# Altium footprint library PCB2.PcbLib: 15 footprints
Each footprint in its own frame and in the unit in brackets; x right, y up, seen from the top. Pads: shape width x height; smd on the part's side, far side on the other; paste and mask are expansions set on the pad; w line width, h text height; cw(c..) or ccw(c..) is an arc to the next point about the centre after c.
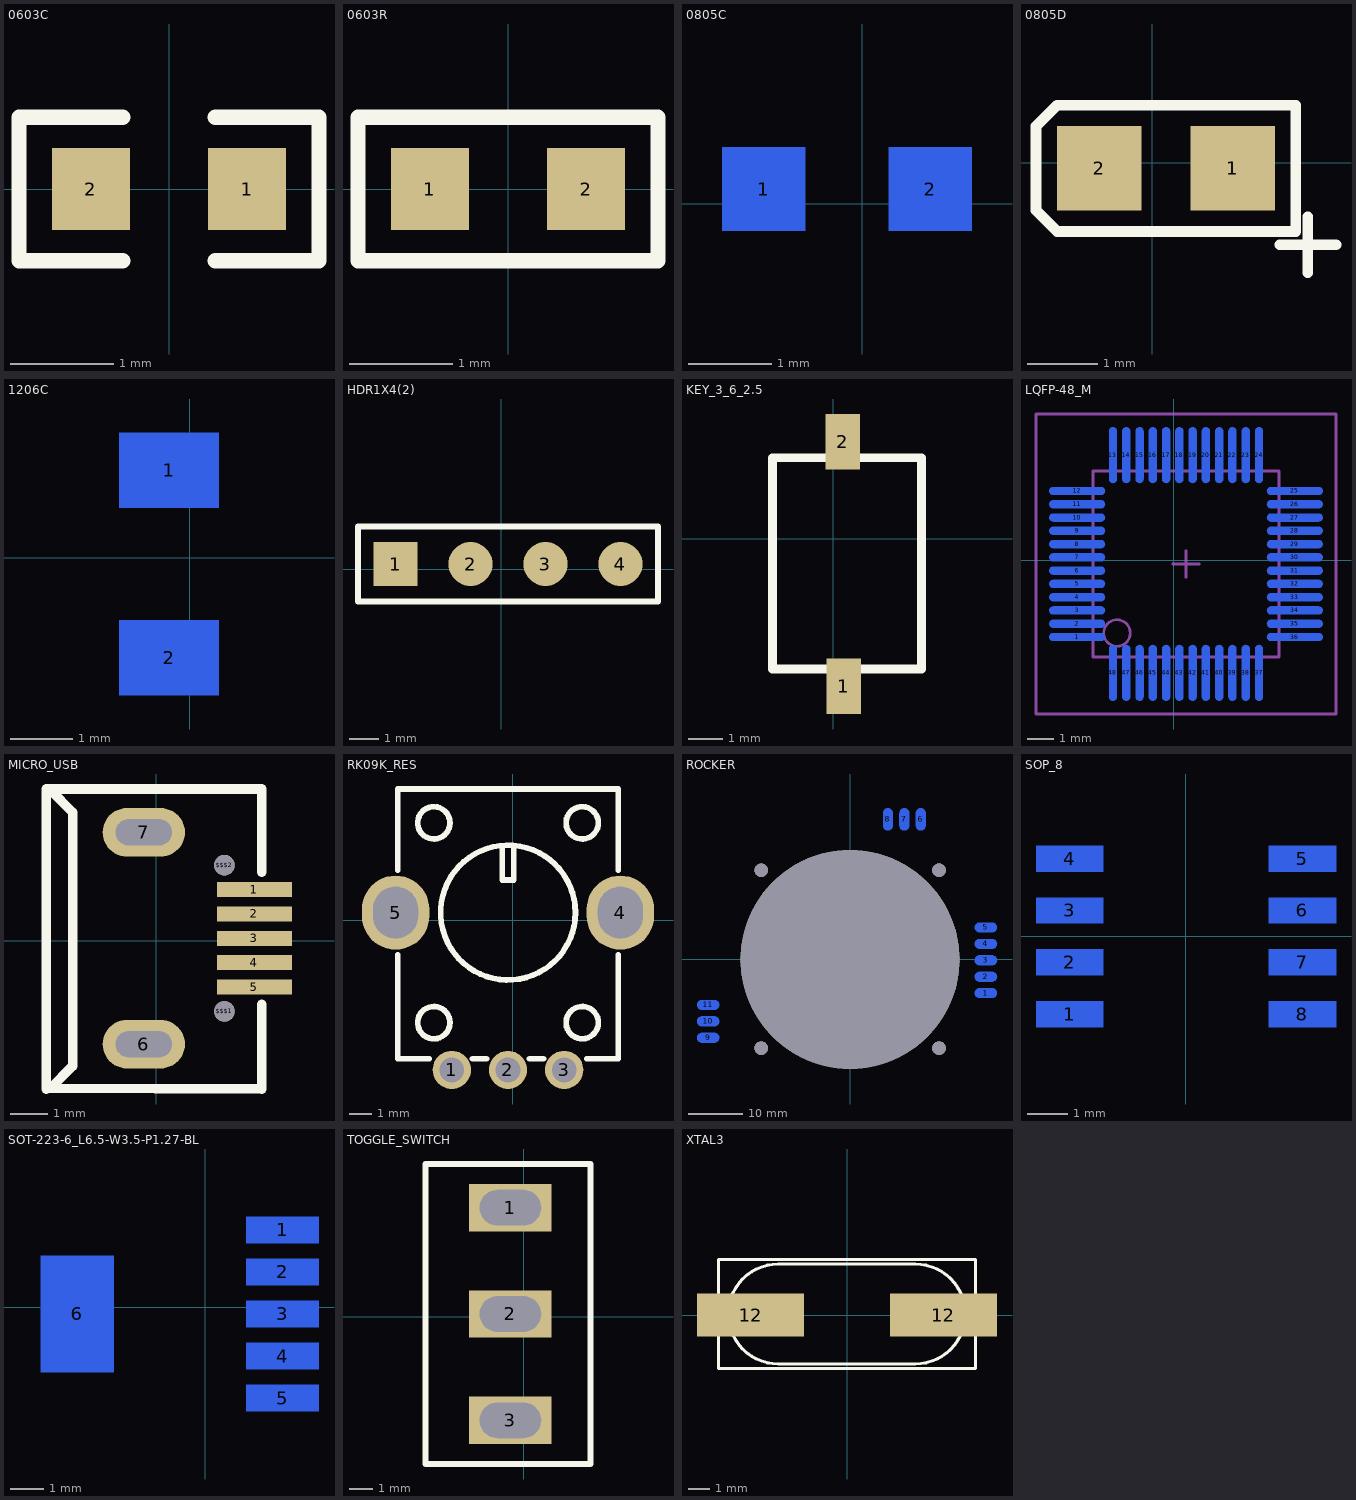
[diagram p0: the footprints below, top view; thin cyan lines are the x and y axes]

## 0603C [mil]
pads (2):
  rect 29.92x31.5 smd: 1(29.92,0) 2(-29.92,0)
Top Overlay:
  lines w5.91: -17.72,-27.56 -57.48,-27.56 -57.48,27.56 -17.72,27.56 ; 17.72,-27.56 57.48,-27.56 57.48,27.56 17.72,27.56

## 0603R [mil]
pads (2):
  rect 29.92x31.5 smd: 1(-29.92,0) 2(29.92,0)
Top Overlay:
  lines w5.91: -57.48,-27.56 57.48,-27.56 57.48,27.56 -57.48,27.56 -57.48,-27.56

## 0805C [mm]
pads (2):
  rect 1x1 smd far side: 1(-1.181,0.179) 2(0.819,0.179)
Bottom Overlay:
  lines w0.15: -0.731,-0.621 -1.981,-0.621 -1.981,0.979 -0.731,0.979 ; 0.369,-0.621 1.619,-0.621 1.619,0.979 0.369,0.979

## 0805D [mm]
pads (2):
  rect 1.2x1.2 smd: 1(1.148,-0.08) 2(-0.752,-0.08)
Top Overlay:
  lines w0.15: 1.818,-1.17 2.618,-1.17 ; 2.218,-1.57 2.218,-0.77 ; -1.652,-0.68 -1.652,0.52 -1.352,0.82 2.048,0.82 2.048,-0.98 -1.352,-0.98 -1.652,-0.68

## 1206C [mm]
pads (2):
  rect 1.6x1.2 smd far side: 1(-0.335,1.402) 2(-0.335,-1.598)
Bottom Overlay:
  lines w0.15: -1.435,-0.998 -1.435,-2.498 0.765,-2.498 0.765,-0.998 ; -1.435,0.802 -1.435,2.302 0.765,2.302 0.765,0.802

## HDR1X4(2) [mil]
pads (4):
  rect 59.06x59.06 smd: 1(-141,7)
  round 59.06 smd: 2(-41,7) 3(59,7) 4(159,7)
Top Overlay:
  lines w7.87: -191,-43 209,-43 209,57 -191,57 -191,-43

## KEY_3_6_2.5 [mm]
pads (2):
  rect 1x1.6 smd: 1(0.302,-4.272) 2(0.27,2.806)
Top Overlay:
  lines w0.254: -1.762,-3.772 -1.762,2.34 2.556,2.34 2.556,-3.772 -1.762,-3.772

## LQFP-48_M [mil]
pads (48):
  oval 82.68x11.81 smd far side: 1(-143.52,-113.96) 2(-143.52,-94.27) 3(-143.52,-74.59) 4(-143.52,-54.9) 5(-143.52,-35.22) 6(-143.52,-15.53) 7(-143.52,4.15) 8(-143.52,23.84) 9(-143.52,43.52) 10(-143.52,63.21) 11(-143.52,82.89) 12(-143.52,102.58) 25(179.32,102.58) 26(179.32,82.89) 27(179.32,63.21) 28(179.32,43.52) 29(179.32,23.84) 30(179.32,4.15) 31(179.32,-15.53) 32(179.32,-35.22) 33(179.32,-54.9) 34(179.32,-74.59) 35(179.32,-94.27) 36(179.32,-113.96)
  oval 11.81x82.68 smd far side: 13(-90.37,155.73) 14(-70.68,155.73) 15(-51,155.73) 16(-31.31,155.73) 17(-11.63,155.73) 18(8.06,155.73) 19(27.74,155.73) 20(47.43,155.73) 21(67.11,155.73) 22(86.8,155.73) 23(106.48,155.73) 24(126.17,155.73) 37(126.17,-167.11) 38(106.48,-167.11) 39(86.8,-167.11) 40(67.11,-167.11) 41(47.43,-167.11) 42(27.74,-167.11) 43(8.06,-167.11) 44(-11.63,-167.11) 45(-31.31,-167.11) 46(-51,-167.11) 47(-70.68,-167.11) 48(-90.37,-167.11)
Bottom Overlay:
  circle w9.84: c-143.52,-141.52 r4.92
  circle w23.62: c-47.06,-70.65 r11.81
  lines w7.87: -86.43,-110.02 -86.43,98.64 122.23,98.64 122.23,-110.02 -86.43,-110.02
Mechanical 19:
  circle w3.94: c-84.46,-108.05 r19.68
  lines w3.94: -119.9,-143.49 -119.9,132.11 155.7,132.11 155.7,-143.49 -119.9,-143.49
Mechanical 20:
  lines w3.94: -1.78,-5.69 37.59,-5.69 ; 17.9,-25.37 17.9,14 ; -204.54,-228.13 -204.54,216.75 240.34,216.75 240.34,-228.13 -204.54,-228.13

## MICRO_USB [mm]
pads (9):
  rect 2x0.4 smd: 1(2.618,1.362) 2(2.618,0.711) 3(2.618,0.061) 4(2.618,-0.588) 5(2.618,-1.237)
  oval 2.199x1.3 hole 0.7 slot 1.5 at 0 deg: 6(-0.332,-2.762) 7(-0.332,2.888)
  round 0.55 hole 0.55 unplated: $$$1(1.818,-1.886) $$$2(1.818,2.013)
Top Overlay:
  lines w0.254: -2.937,-3.956 -2.937,4.045 ; 2.814,-1.693 2.814,-3.956 -2.937,-3.936 -2.818,-3.936 -2.228,-3.347 -2.228,3.425 -2.818,4.014 -2.917,4.014 -2.917,4.045 2.814,4.045 2.814,1.82

## RK09K_RES [mm]
pads (5):
  round 1.7 hole 1.1: 1(-2.703,-6.649) 2(-0.203,-6.649) 3(2.297,-6.649)
  oval 3x3.3 hole 2 slot 2.3 at 90 deg: 4(4.797,0.351) 5(-5.203,0.351)
Top Overlay:
  circle w0.254: c3.099,-4.546 r0.718
  circle w0.254: c-3.505,-4.546 r0.718
  circle w0.254: c3.099,4.344 r0.718
  circle w0.254: c-3.505,4.344 r0.718
  circle w0.254: c-0.203,0.35 r3
  lines w0.254: -5.103,-1.528 -5.103,-6.149 -3.701,-6.149 ; -5.103,2.229 -5.103,5.851 4.697,5.851 4.697,2.229 ; -1.785,-6.149 -1.161,-6.149 ; -0.457,3.328 -0.457,1.804 0.051,1.804 0.051,3.328 ; 0.755,-6.149 1.379,-6.149 ; 3.295,-6.149 4.697,-6.149 4.697,-1.528

## ROCKER [mil]
pads (16):
  oval 160x70 smd far side: 1(976.75,-242.74) 2(976.75,-124.62) 3(976.75,-6.51) 4(976.75,111.6) 5(976.75,229.71) 9(-1021.28,-563.6) 10(-1021.28,-445.49) 11(-1021.28,-327.38)
  oval 70x160 smd far side: 6(508.25,1007.26) 7(390.14,1007.26) 8(272.03,1007.26)
  round 98.43 hole 98.43: " "(-639.39,-638.41) " "(-639.39,641.12) " "(640.14,-638.41) " "(640.14,641.12)
  round 1574.8 hole 1574.8: " "(0,0)
Bottom Overlay:
  circle w5: c0.37,1.36 r767.72
  circle w5: c640.14,-638.41 r47.24
  circle w5: c640.14,641.12 r47.24
  circle w5: c-639.39,641.12 r47.24
  circle w5: c-639.39,-638.41 r47.24
  lines w5: -794.9,-754.55 ccw(c-755.53,-754.55) -755.53,-793.92 756.28,-793.92 ccw(c756.28,-754.55) 795.65,-754.55 795.65,757.26 ccw(c756.28,757.26) 756.28,796.63 -755.53,796.63 ccw(c-755.53,757.26) -794.9,757.26 -794.9,-754.55

## SOP_8 [mm]
pads (8):
  rect 1.651x0.635 smd far side: 1(-2.85,-1.905) 2(-2.85,-0.635) 3(-2.85,0.635) 4(-2.85,1.905) 5(2.85,1.905) 6(2.85,0.635) 7(2.85,-0.635) 8(2.85,-1.905)
Bottom Overlay:
  lines w0.152: -0.318,-2.54 -1.19,-2.54 -1.19,2.54 1.19,2.54 1.19,-2.54 0.317,-2.54
  lines w0.2: -0.318,-2.54 cw(c0,-2.54) 0.317,-2.54

## SOT-223-6_L6.5-W3.5-P1.27-BL [mil]
pads (6):
  rect 86.61x31.5 smd far side: 1(91.92,91.81) 2(91.92,41.81) 3(91.92,-8.19) 4(91.92,-58.19) 5(91.92,-108.19)
  rect 86.61x137.8 smd far side: 6(-152.08,-8.19)
Bottom Overlay:
  lines w10: -98.98,-136.15 -98.98,119.76 38.82,119.76 38.82,-136.15 -98.98,-136.15

## TOGGLE_SWITCH [mm]
pads (3):
  rect 3.5x2 hole 1.5 slot 2.6 at 0 deg: 1(-0.562,4.614) 2(-0.562,0.114) 3(-0.562,-4.386)
Top Overlay:
  lines w0.254: -4.162,-6.236 -4.162,6.464 2.838,6.464 2.838,-6.236 -4.162,-6.236

## XTAL3 [mm]
pads (2):
  rect 5x2 smd: 12(-4.5,0) 12(4.5,0)
Top Overlay:
  lines w0.15: -6,-2.5 -6,2.6 6,2.6 6,-2.5 -6,-2.5 ; -3.21,-2.28 cw(c-3.21,0.05) -3.21,2.38 3.19,2.38 cw(c3.19,0.05) 3.19,-2.28 -3.21,-2.28